# Altium schematic symbol library TPS563201DDCR.SchLib: 1 symbol
Pins are listed as number, name and electrical type; pins without a type are passive.

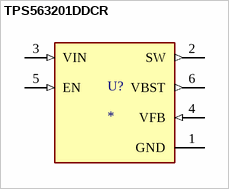
[diagram p0: symbol TPS563201DDCR]

## TPS563201DDCR
designator U?
4.5 V to 17 V input, 3 A output, synchronous step-down converter in Eco-mode; MF: Texas Instruments; MP: TPS563201DDCR; SnapEDA_Link: https://www.snapeda.com/parts/TPS563201DDCR/Texas+Instruments/view-part/?ref=snap; Package: SOT-23-THN-6 Texas Instruments; Value: *; Check_prices: https://www.snapeda.com/parts/TPS563201DDCR/Texas+Instruments/view-part/?ref=eda
footprint SOT95P280X110-6N
pins: 1 GND (power), 2 SW (out), 3 VIN (in), 4 VFB (in), 5 EN (in), 6 VBST (out)